# EAGLE library part MC12080 (library on-semiconductor)
1.1 GHz Prescaler MECL PLL COMPONENTS ÷10/20/40/80 PRESCALER Source: http://motorola.com/sps .. MC12080.pdf
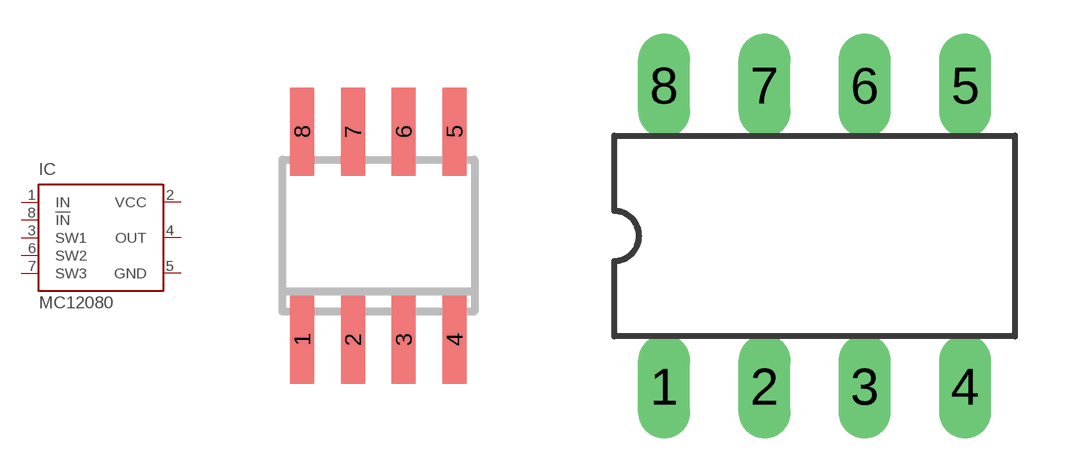
[diagram p3: symbol with the pads of SO08; footprints SO08, DIL8]

Designator prefix IC

## MC12080D  [SO08]
1  IN  in
2  VCC  pwr
3  SW1  in
4  OUT  out
5  GND  pwr
6  SW2  in
7  SW3  in
8  !IN  in

## MC12080P  [DIL8]
Pads as for SO08

## Footprint SO08 (pad centres in mm)
Small Outline Package 8 NS Package M08A
smd 0.6 x 2.2: 1 -1.905,-2.6; 2 -0.635,-2.6; 3 0.635,-2.6; 4 1.905,-2.6; 5 1.905,2.6; 6 0.635,2.6; 7 -0.635,2.6; 8 -1.905,2.6

## Footprint DIL8 (pad centres in mm)
Dual In Line package type P
drill 0.813 long: 1 -3.81,-3.81; 2 -1.27,-3.81; 3 1.27,-3.81; 4 3.81,-3.81; 5 3.81,3.81; 6 1.27,3.81; 7 -1.27,3.81; 8 -3.81,3.81